# Altium footprint library cui1.PcbLib: 1 footprints
Each footprint in its own frame and in the unit in brackets; x right, y up, seen from the top. Pads: shape width x height; smd on the part's side, far side on the other; paste and mask are expansions set on the pad; w line width, h text height; cw(c..) or ccw(c..) is an arc to the next point about the centre after c.
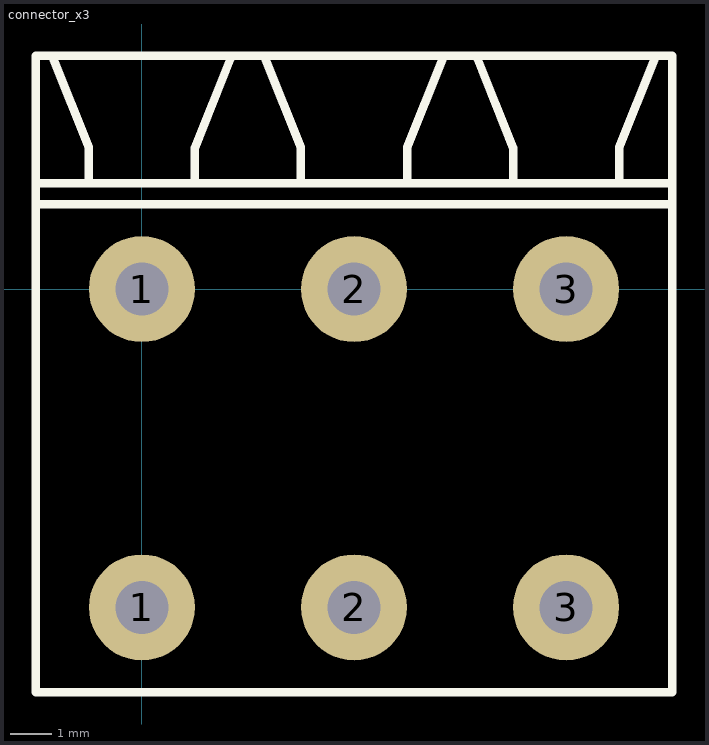
[diagram p0: the footprint, top view; thin cyan lines are the x and y axes]

## connector_x3 [mil]
height 393.7
pads (6):
  round 100 hole 50: 1(0,-300) 1(0,0) 2(200,-300) 2(200,0) 3(400,-300) 3(400,0)
Top Overlay:
  lines w8: -100,80 500,80 ; -100,100 500,100 ; -83.33,216.67 -50,133.33 -50,100 ; 50,100 50,133.33 83.33,216.67 ; 116.67,216.67 150,133.33 150,100 ; 250,100 250,133.33 283.33,216.67 ; 316.67,216.67 350,133.33 350,100 ; 450,100 450,133.33 483.33,216.67 ; -100,-380 -100,220 500,220 500,-380 -100,-380